# Altium footprint library SCMLI_V31.PcbLib: 32 footprints (part 2 of 2)
Each footprint in its own frame and in the unit in brackets; x right, y up, seen from the top. Pads: shape width x height; smd on the part's side, far side on the other; paste and mask are expansions set on the pad; w line width, h text height; cw(c..) or ccw(c..) is an arc to the next point about the centre after c.
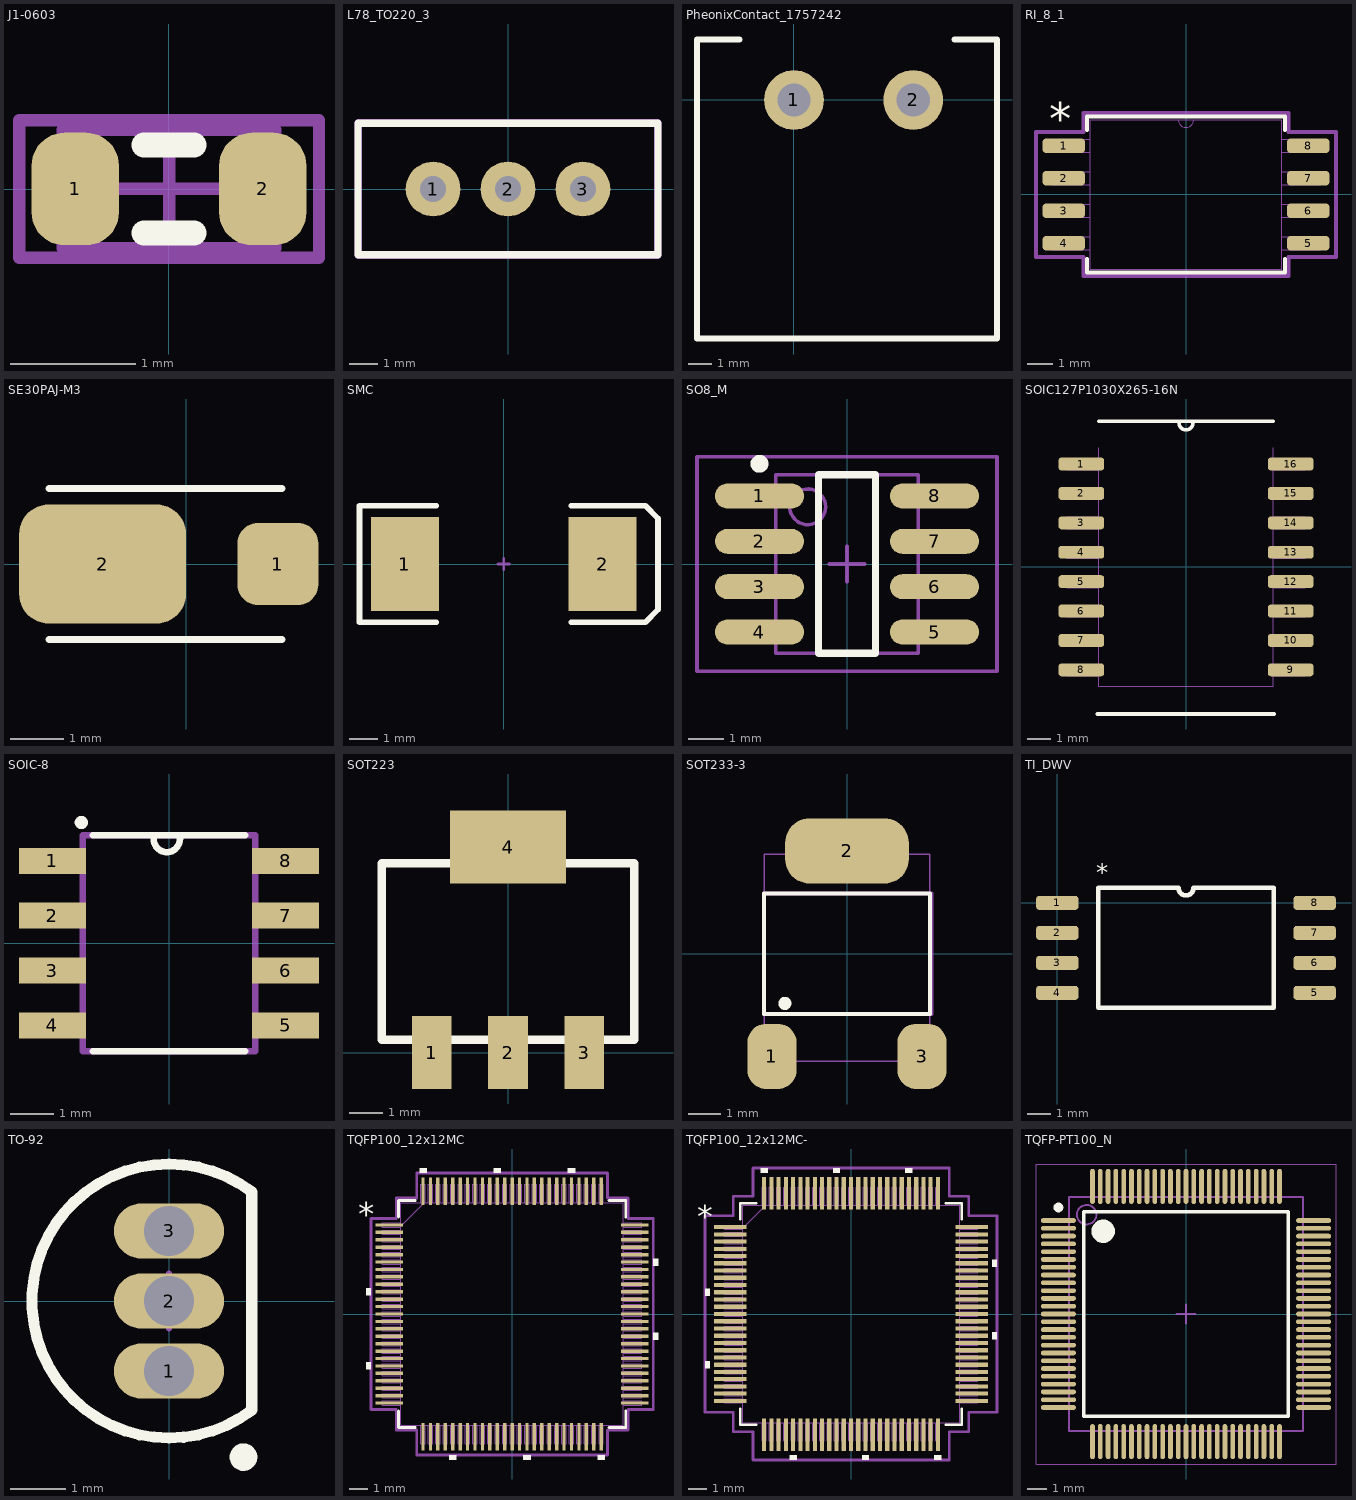
[diagram p1: the footprints below, top view; thin cyan lines are the x and y axes]

## J1-0603 [mm] "Chip Resistor, Body 1.6x0.8mm, IPC High Density"
height 0.9
pads (2):
  rrect75% 0.7x0.9 smd: 1(-0.75,0) 2(0.75,0)
Top Overlay:
  lines w0.2: -0.2,-0.35 0.2,-0.35 ; -0.2,0.35 0.2,0.35
Mechanical 13:
  lines w0.1: -0.85,-0.475 -0.85,0.475 0.85,0.475 0.85,-0.475 -0.85,-0.475
Mechanical 15:
  lines w0.1: -0.475,0 0.475,0 ; 0,-0.475 0,0.475 ; -1.2,-0.55 -1.2,0.55 1.2,0.55 1.2,-0.55 -1.2,-0.55
3D body: height 0.9, standoff 0, extent -0.85,-0.475 0.85,0.475

## L78_TO220_3 [mm]
pads (3):
  round 1.9 hole 0.9: 1(-2.6,0) 2(0,0) 3(2.6,0)
Top Overlay:
  lines w0.254: -5.207,-2.286 -5.207,2.286 5.207,2.286 5.207,-2.286 -5.207,-2.286
Mechanical 1:
  lines w0.254: -5.2,-2.3 -5.2,2.3 5.2,2.3 5.2,-2.3 -5.2,-2.3
3D body: height 16.4, standoff 0, extent -5.2,-2.3 5.207,2.3

## PheonixContact_1757242 [mm]
pads (2):
  round 2.5 hole 1.4: 1(0,0) 2(5,0)
Top Overlay:
  lines w0.254: -4.064,-10 8.509,-10 ; -4.064,-9.906 -4.064,2.54 -2.286,2.54 ; 6.731,2.54 8.509,2.54 8.509,-9.906
3D body "pxc_1757242_06_MSTBA-2-5-2-G-5-08_3D.stp": height 0, standoff -12, extent -3.778,-7.401 8.382,4.699

## RI_8_1 [mm]
pads (8):
  rrect50% 1.661x0.561 smd paste+0 mask+0: 1(-4.78,1.905) 2(-4.78,0.635) 3(-4.78,-0.635) 4(-4.78,-1.905) 5(4.78,-1.905) 6(4.78,-0.635) 7(4.78,0.635) 8(4.78,1.905)
Top Overlay:
  lines w0.152: -3.877,-2.51 -3.877,-3.052 3.877,-3.052 3.877,-2.51 ; -3.877,2.51 -3.877,3.052 3.877,3.052 3.877,2.51
  text "*" at -5.351,2.339 h1.27
Mechanical 13:
  lines w0: -0.305,2.925 ccw(c0,2.925) 0.305,2.925
  lines w0.025: -5.255,-2.16 -3.75,-2.16 -3.75,-1.65 -5.255,-1.65 -5.255,-2.16 ; -5.255,-0.89 -3.75,-0.89 -3.75,-0.38 -5.255,-0.38 -5.255,-0.89 ; -5.255,0.38 -3.75,0.38 -3.75,0.89 -5.255,0.89 -5.255,0.38 ; -5.255,1.65 -3.75,1.65 -3.75,2.16 -5.255,2.16 -5.255,1.65 ; -3.75,-2.925 -3.75,2.925 3.75,2.925 3.75,-2.925 -3.75,-2.925 ; 3.75,-2.16 5.255,-2.16 5.255,-1.65 3.75,-1.65 3.75,-2.16 ; 3.75,-0.89 5.255,-0.89 5.255,-0.38 3.75,-0.38 3.75,-0.89 ; 3.75,0.38 5.255,0.38 5.255,0.89 3.75,0.89 3.75,0.38 ; 3.75,1.65 5.255,1.65 5.255,2.16 3.75,2.16 3.75,1.65
  text "*" at -3.687,1.579 h1.27
Mechanical 15:
  lines w0.152: -5.865,-2.439 -4.004,-2.439 -4.004,-3.179 4.004,-3.179 4.004,-2.439 5.865,-2.439 5.865,2.439 4.004,2.439 4.004,3.179 -4.004,3.179 -4.004,2.439 -5.865,2.439 -5.865,-2.439

## SE30PAJ-M3 [mil] "600V diode"
pads (2):
  rrect50% 59x60 smd: 1(67,0)
  rrect50% 122x87 smd: 2(-61,0)
Top Overlay:
  lines w5: -100,-55 70,-55 ; -100,55 70,55

## SMC [mm] "DO-214-AB/SMC; 2 C-Bend Leads; Body 7.9 x 5.9 mm, inc. leads (LxW)"
height 2.65
pads (2):
  rect 2.4x3.3 smd: 1(-3.475,0) 2(3.475,0)
Top Overlay:
  lines w0.2: -2.375,-2.05 -5.075,-2.05 -5.075,2.05 -2.375,2.05 ; 2.375,-2.05 4.975,-2.05 5.425,-1.6 5.425,1.6 4.975,2.055 ; 2.375,2.05 4.975,2.05
Mechanical 1:
  lines w0.1: -0.2,0 0.2,0 ; 0,-0.2 0,0.2

## SO8_M [mm] "SOIC, 8-Leads, Body 4.9x3.9mm, Pitch 1.27mm, IPC Low Density"
height 1.75
pads (8):
  oval 2.5x0.7 smd: 1(-2.45,1.905) 2(-2.45,0.635) 3(-2.45,-0.635) 4(-2.45,-1.905) 5(2.45,-1.905) 6(2.45,-0.635) 7(2.45,0.635) 8(2.45,1.905)
Top Overlay:
  circle w0.25: c-2.45,2.805 r0.125
  lines w0.2: -0.8,-2.5 0.8,-2.5 0.8,2.5 -0.8,2.5 -0.8,-2.5
Mechanical 13:
  circle w0.1: c-1.1,1.6 r0.5
  lines w0.1: -2,-2.5 2,-2.5 2,2.5 -2,2.5 -2,-2.5
Mechanical 15:
  lines w0.1: -0.5,0 0.5,0 ; 0,-0.5 0,0.5 ; -4.2,-3 4.2,-3 4.2,3 -4.2,3 -4.2,-3
3D body: height 1.75, standoff 0, extent -2,-2.5 2,2.5

## SOIC127P1030X265-16N [mil]
pads (16):
  rrect50% 78x22 smd: 1(-178,175) 2(-178,125) 3(-178,75) 4(-178,25) 5(-178,-25) 6(-178,-75) 7(-178,-125) 8(-178,-175) 9(178,-175) 10(178,-125) 11(178,-75) 12(178,-25) 13(178,25) 14(178,75) 15(178,125) 16(178,175)
Top Overlay:
  lines w6: -151,-250 150,-250 ; -148,248 -12,248 12,248 148,248 ; -12,245 ccw(c0,245) 12,245
Mechanical 4:
  lines w0: -203,-185 -203,-165 ; -203,-185 -148,-185 ; -203,-185 -203,-165 ; -203,-185 -148,-185 ; -203,-165 -148,-165 ; -203,-165 -148,-165 ; -203,-135 -203,-115 ; -203,-135 -148,-135 ; -203,-135 -203,-115 ; -203,-135 -148,-135 ; -203,-115 -148,-115 ; -203,-115 -148,-115 ; -203,-85 -203,-65 ; -203,-85 -148,-85 ; -203,-85 -203,-65 ; -203,-85 -148,-85 ; -203,-65 -148,-65 ; -203,-65 -148,-65 ; -203,-35 -203,-15 ; -203,-35 -148,-35 ; -203,-35 -203,-15 ; -203,-35 -148,-35 ; -203,-15 -148,-15 ; -203,-15 -148,-15 ; -203,15 -203,35 ; -203,15 -148,15 ; -203,15 -203,35 ; -203,15 -148,15 ; -203,35 -148,35 ; -203,35 -148,35 ; -203,65 -203,85 ; -203,65 -148,65 ; -203,65 -203,85 ; -203,65 -148,65 ; -203,85 -148,85 ; -203,85 -148,85 ; -203,115 -203,135 ; -203,115 -148,115 ; -203,115 -203,135 ; -203,115 -148,115 ; -203,135 -148,135 ; -203,135 -148,135 ; -203,165 -203,185 ; -203,165 -148,165 ; -203,165 -203,185 ; -203,165 -148,165 ; -203,185 -148,185 ; -203,185 -148,185 ; -148,-203 148,-203 ; -148,-203 -148,203 -148,-203 ; -148,-203 148,-203 ; -148,-185 -148,-165 ; -148,-185 -148,-165 ; -148,-135 -148,-115 ; -148,-135 -148,-115 ; -148,-85 -148,-65 ; -148,-85 -148,-65 ; -148,-35 -148,-15 ; -148,-35 -148,-15 ; -148,15 -148,35 ; -148,15 -148,35 ; -148,65 -148,85 ; -148,65 -148,85 ; -148,115 -148,135 ; -148,115 -148,135 ; -148,165 -148,185 ; -148,165 -148,185 ; -12,248 ccw(c0,248) 12,248 ; -12,248 ccw(c0,248) 12,248 ; -12,248 12,248 ; -12,248 -148,248 -12,248 ; -12,248 12,248 ; 12,248 148,248 12,248 ; 148,-203 148,203 148,-203 ; 148,-185 148,-165 ; 148,-185 203,-185 ; 148,-185 148,-165 ; 148,-185 203,-185 ; 148,-165 203,-165 ; 148,-165 203,-165 ; 148,-135 148,-115 ; 148,-135 203,-135 ; 148,-135 148,-115 ; 148,-135 203,-135 ; 148,-115 203,-115 ; 148,-115 203,-115 ; 148,-85 148,-65 ; 148,-85 203,-85 ; 148,-85 148,-65 ; 148,-85 203,-85 ; 148,-65 203,-65 ; 148,-65 203,-65 ; 148,-35 148,-15 ; 148,-35 203,-35 ; 148,-35 148,-15 ; 148,-35 203,-35 ; 148,-15 203,-15 ; 148,-15 203,-15 ; 148,15 148,35 ; 148,15 203,15 ; 148,15 148,35 ; 148,15 203,15 ; 148,35 203,35 ; 148,35 203,35 ; 148,65 148,85 ; 148,65 203,65 ; 148,65 148,85 ; 148,65 203,65 ; 148,85 203,85 ; 148,85 203,85 ; 148,115 148,135 ; 148,115 203,115 ; 148,115 148,135 ; 148,115 203,115 ; 148,135 203,135 ; 148,135 203,135 ; 148,165 148,185 ; 148,165 203,165 ; 148,165 148,185 ; 148,165 203,165 ; 148,185 203,185 ; 148,185 203,185 ; 203,-185 203,-165 ; 203,-185 203,-165 ; 203,-135 203,-115 ; 203,-135 203,-115 ; 203,-85 203,-65 ; 203,-85 203,-65 ; 203,-35 203,-15 ; 203,-35 203,-15 ; 203,15 203,35 ; 203,15 203,35 ; 203,65 203,85 ; 203,65 203,85 ; 203,115 203,135 ; 203,115 203,135 ; 203,165 203,185 ; 203,165 203,185

## SOIC-8 [mm]
pads (8):
  rect 1.55x0.6 smd: 1(-2.7,1.905) 2(-2.7,0.635) 3(-2.7,-0.635) 4(-2.7,-1.905) 5(2.7,-1.905) 6(2.7,-0.635) 7(2.7,0.635) 8(2.7,1.905)
Top Overlay:
  circle w0.152: c-2.032,2.794 r0.076
  lines w0.152: -1.769,-2.502 1.769,-2.502 ; -1.769,2.502 1.769,2.502 ; -0.356,2.413 ccw(c-0.051,2.413) 0.254,2.413
Mechanical 1:
  lines w0.152: -1.994,-2.502 -1.994,2.502 1.994,2.502 1.994,-2.502 -1.994,-2.502
3D body: height 1.75, standoff 0, extent -1.994,-2.502 1.994,2.502

## SOT223 [mm]
pads (4):
  rect 1.2x2.2 smd: 1(-2.3,0) 2(0,0) 3(2.3,0)
  rect 3.5x2.2 smd: 4(0,6.2)
Top Overlay:
  lines w0.254: -3.81,0.381 3.81,0.381 3.81,5.715 -0.508,5.715 -3.81,5.715 -3.81,0.381

## SOT233-3 [mm]
pads (3):
  rrect75% 1.5x2 smd: 1(-2.3,-3.15) 3(2.3,-3.15)
  rrect75% 3.8x2 smd: 2(0,3.15)
Top Overlay:
  circle w0.2: c-1.905,-1.524 r0.1
  lines w0.127: -2.54,-1.85 2.54,-1.85 2.54,1.85 -2.54,1.85 -2.54,-1.85
Mechanical 4:
  lines w0.127: -2.54,-1.85 2.588,-1.85 ; -2.54,-1.85 2.588,-1.85 ; -2.54,-1.85 -2.54,1.85 ; -2.54,1.85 2.588,1.85 ; -2.54,1.85 2.588,1.85 ; 2.588,-1.85 2.588,1.85
Mechanical 16:
  lines w0.05: -2.54,-3.302 -2.54,3.048 2.54,3.048 2.54,-3.302 -2.54,-3.302

## TI_DWV [mm]
pads (8):
  rrect50% 1.8x0.6 smd: 1(0,0) 2(0,-1.27) 3(0,-2.54) 4(0,-3.81) 5(10.9,-3.81) 6(10.9,-2.54) 7(10.9,-1.27) 8(10.9,0)
Top Overlay:
  lines w0.2: 1.735,-4.445 9.165,-4.445 9.165,0.635 5.767,0.635 cw(c5.45,0.635) 5.132,0.635 1.735,0.635 1.735,-4.445
  text "*" at 1.651,0.889 h0.76

## TO-92 [mm] "TO, Flat Index; 3 In-Line, Axial Leads; Body Dia. 4.7mm; Lead Dia. 0.56 mm (max)"
height 4.95
pads (3):
  oval 2x1 hole 0.9: 1(0,-1.27) 2(0,0) 3(0,1.27)
Top Overlay:
  circle w0.25: c1.35,-2.83 r0.125
  lines w0.2: 1.5,-1.98 cw(c0,0) 1.5,1.98 1.5,-1.98
Mechanical 13:
  lines w0.1: 1.5,-1.98 cw(c0,0) 1.5,1.98 1.5,-1.98
Mechanical 15:
  lines w0.1: -0.5,0 0.5,0 ; 0,-0.5 0,0.5
3D body: height 4.95, standoff 0, extent -2.485,-2.495 1.501,2.495

## TQFP100_12x12MC [mil]
pads (100):
  rect 58x7 smd paste+0 mask+0: 1(-260.5,188.98) 2(-260.5,173.23) 3(-260.5,157.48) 4(-260.5,141.73) 5(-260.5,125.98) 6(-260.5,110.24) 7(-260.5,94.49) 8(-260.5,78.74) 9(-260.5,62.99) 10(-260.5,47.24) 11(-260.5,31.5) 12(-260.5,15.75) 13(-260.5,0) 14(-260.5,-15.75) 15(-260.5,-31.5) 16(-260.5,-47.24) 17(-260.5,-62.99) 18(-260.5,-78.74) 19(-260.5,-94.49) 20(-260.5,-110.24) 21(-260.5,-125.98) 22(-260.5,-141.73) 23(-260.5,-157.48) 24(-260.5,-173.23) 25(-260.5,-188.98) 51(260.5,-188.98) 52(260.5,-173.23) 53(260.5,-157.48) 54(260.5,-141.73) 55(260.5,-125.98) 56(260.5,-110.24) 57(260.5,-94.49) 58(260.5,-78.74) 59(260.5,-62.99) 60(260.5,-47.24) 61(260.5,-31.5) 62(260.5,-15.75) 63(260.5,0) 64(260.5,15.75) 65(260.5,31.5) 66(260.5,47.24) 67(260.5,62.99) 68(260.5,78.74) 69(260.5,94.49) 70(260.5,110.24) 71(260.5,125.98) 72(260.5,141.73) 73(260.5,157.48) 74(260.5,173.23) 75(260.5,188.98)
  rect 7x58 smd paste+0 mask+0: 26(-188.98,-260.5) 27(-173.23,-260.5) 28(-157.48,-260.5) 29(-141.73,-260.5) 30(-125.98,-260.5) 31(-110.24,-260.5) 32(-94.49,-260.5) 33(-78.74,-260.5) 34(-62.99,-260.5) 35(-47.24,-260.5) 36(-31.5,-260.5) 37(-15.75,-260.5) 38(0,-260.5) 39(15.75,-260.5) 40(31.5,-260.5) 41(47.24,-260.5) 42(62.99,-260.5) 43(78.74,-260.5) 44(94.49,-260.5) 45(110.24,-260.5) 46(125.98,-260.5) 47(141.73,-260.5) 48(157.48,-260.5) 49(173.23,-260.5) 50(188.98,-260.5) 76(188.98,260.5) 77(173.23,260.5) 78(157.48,260.5) 79(141.73,260.5) 80(125.98,260.5) 81(110.24,260.5) 82(94.49,260.5) 83(78.74,260.5) 84(62.99,260.5) 85(47.24,260.5) 86(31.5,260.5) 87(15.75,260.5) 88(0,260.5) 89(-15.75,260.5) 90(-31.5,260.5) 91(-47.24,260.5) 92(-62.99,260.5) 93(-78.74,260.5) 94(-94.49,260.5) 95(-110.24,260.5) 96(-125.98,260.5) 97(-141.73,260.5) 98(-157.48,260.5) 99(-173.23,260.5) 100(-188.98,260.5)
Top Overlay:
  region: -181.48,299.5 -196.48,299.5 -196.48,309.5 -181.48,309.5
  region: -24,299.5 -39,299.5 -39,309.5 -24,309.5
  region: 133.48,299.5 118.48,299.5 118.48,309.5 133.48,309.5
  region: 299.5,117.74 309.5,117.74 309.5,102.74 299.5,102.74
  region: 299.5,-39.74 309.5,-39.74 309.5,-54.74 299.5,-54.74
  region: 196.48,-299.5 181.48,-299.5 181.48,-309.5 196.48,-309.5
  region: 39,-299.5 24,-299.5 24,-309.5 39,-309.5
  region: -118.48,-299.5 -133.48,-299.5 -133.48,-309.5 -118.48,-309.5
  region: -299.5,-102.74 -309.5,-102.74 -309.5,-117.74 -299.5,-117.74
  region: -299.5,54.74 -309.5,54.74 -309.5,39.74 -299.5,39.74
  lines w6: -241,-205.58 -241,-241 -205.58,-241 ; -241,205.58 -241,241 -205.58,241 ; 205.58,-241 241,-241 241,-205.58 ; 205.58,241 241,241 241,205.58
  text "*" at -327,186.85 h50
Mechanical 13:
  drawing of 405 lines, arcs and shapes, not listed
  text "*" at -233.5,171.85 h50
Mechanical 15:
  lines w6: -299.5,-202.48 -299.5,202.48 -246,202.48 -246,246 -202.48,246 -202.48,299.5 202.48,299.5 202.48,246 246,246 246,202.48 299.5,202.48 299.5,-202.48 246,-202.48 246,-246 202.48,-246 202.48,-299.5 -202.48,-299.5 -202.48,-246 -246,-246 -246,-202.48 -299.5,-202.48

## TQFP100_12x12MC- [mil]
pads (100):
  rect 70x9 smd paste+0 mask+0: 1(-262.5,188.98) 2(-262.5,173.23) 3(-262.5,157.48) 4(-262.5,141.73) 5(-262.5,125.98) 6(-262.5,110.24) 7(-262.5,94.49) 8(-262.5,78.74) 9(-262.5,62.99) 10(-262.5,47.24) 11(-262.5,31.5) 12(-262.5,15.75) 13(-262.5,0) 14(-262.5,-15.75) 15(-262.5,-31.5) 16(-262.5,-47.24) 17(-262.5,-62.99) 18(-262.5,-78.74) 19(-262.5,-94.49) 20(-262.5,-110.24) 21(-262.5,-125.98) 22(-262.5,-141.73) 23(-262.5,-157.48) 24(-262.5,-173.23) 25(-262.5,-188.98) 51(262.5,-188.98) 52(262.5,-173.23) 53(262.5,-157.48) 54(262.5,-141.73) 55(262.5,-125.98) 56(262.5,-110.24) 57(262.5,-94.49) 58(262.5,-78.74) 59(262.5,-62.99) 60(262.5,-47.24) 61(262.5,-31.5) 62(262.5,-15.75) 63(262.5,0) 64(262.5,15.75) 65(262.5,31.5) 66(262.5,47.24) 67(262.5,62.99) 68(262.5,78.74) 69(262.5,94.49) 70(262.5,110.24) 71(262.5,125.98) 72(262.5,141.73) 73(262.5,157.48) 74(262.5,173.23) 75(262.5,188.98)
  rect 9x70 smd paste+0 mask+0: 26(-188.98,-262.5) 27(-173.23,-262.5) 28(-157.48,-262.5) 29(-141.73,-262.5) 30(-125.98,-262.5) 31(-110.24,-262.5) 32(-94.49,-262.5) 33(-78.74,-262.5) 34(-62.99,-262.5) 35(-47.24,-262.5) 36(-31.5,-262.5) 37(-15.75,-262.5) 38(0,-262.5) 39(15.75,-262.5) 40(31.5,-262.5) 41(47.24,-262.5) 42(62.99,-262.5) 43(78.74,-262.5) 44(94.49,-262.5) 45(110.24,-262.5) 46(125.98,-262.5) 47(141.73,-262.5) 48(157.48,-262.5) 49(173.23,-262.5) 50(188.98,-262.5) 76(188.98,262.5) 77(173.23,262.5) 78(157.48,262.5) 79(141.73,262.5) 80(125.98,262.5) 81(110.24,262.5) 82(94.49,262.5) 83(78.74,262.5) 84(62.99,262.5) 85(47.24,262.5) 86(31.5,262.5) 87(15.75,262.5) 88(0,262.5) 89(-15.75,262.5) 90(-31.5,262.5) 91(-47.24,262.5) 92(-62.99,262.5) 93(-78.74,262.5) 94(-94.49,262.5) 95(-110.24,262.5) 96(-125.98,262.5) 97(-141.73,262.5) 98(-157.48,262.5) 99(-173.23,262.5) 100(-188.98,262.5)
Top Overlay:
  region: -307.5,54.74 -317.5,54.74 -317.5,39.74 -307.5,39.74
  region: -307.5,-102.74 -317.5,-102.74 -317.5,-117.74 -307.5,-117.74
  region: -118.48,-307.5 -133.48,-307.5 -133.48,-317.5 -118.48,-317.5
  region: 39,-307.5 24,-307.5 24,-317.5 39,-317.5
  region: 196.48,-307.5 181.48,-307.5 181.48,-317.5 196.48,-317.5
  region: 307.5,-39.74 317.5,-39.74 317.5,-54.74 307.5,-54.74
  region: 307.5,117.74 317.5,117.74 317.5,102.74 307.5,102.74
  region: 133.48,307.5 118.48,307.5 118.48,317.5 133.48,317.5
  region: -24,307.5 -39,307.5 -39,317.5 -24,317.5
  region: -181.48,307.5 -196.48,307.5 -196.48,317.5 -181.48,317.5
  lines w6: -241,-206.58 -241,-241 -206.58,-241 ; -241,206.58 -241,241 -206.58,241 ; 206.58,-241 241,-241 241,-206.58 ; 206.58,241 241,241 241,206.58
  text "*" at -335,186.85 h50
Mechanical 13:
  drawing of 405 lines, arcs and shapes, not listed
  text "*" at -233.5,171.85 h50
Mechanical 15:
  lines w6: -317.5,-213.48 -256,-213.48 -256,-256 -213.48,-256 -213.48,-317.5 213.48,-317.5 213.48,-256 256,-256 256,-213.48 317.5,-213.48 317.5,213.48 256,213.48 256,256 213.48,256 213.48,317.5 -213.48,317.5 -213.48,256 -256,256 -256,213.48 -317.5,213.48 -317.5,-213.48
3D body: height 10, standoff 0, extent 0,0 10,10

## TQFP-PT100_N [mm] "Thin QFP, 100-Leads, Body 12x12mm, Pitch 0.4mm, IPC Medium Density"
height 1.2
pads (100):
  oval 1.8x0.24 smd: 1(-6.55,4.8) 2(-6.55,4.4) 3(-6.55,4) 4(-6.55,3.6) 5(-6.55,3.2) 6(-6.55,2.8) 7(-6.55,2.4) 8(-6.55,2) 9(-6.55,1.6) 10(-6.55,1.2) 11(-6.55,0.8) 12(-6.55,0.4) 13(-6.55,0) 14(-6.55,-0.4) 15(-6.55,-0.8) 16(-6.55,-1.2) 17(-6.55,-1.6) 18(-6.55,-2) 19(-6.55,-2.4) 20(-6.55,-2.8) 21(-6.55,-3.2) 22(-6.55,-3.6) 23(-6.55,-4) 24(-6.55,-4.4) 25(-6.55,-4.8) 51(6.55,-4.8) 52(6.55,-4.4) 53(6.55,-4) 54(6.55,-3.6) 55(6.55,-3.2) 56(6.55,-2.8) 57(6.55,-2.4) 58(6.55,-2) 59(6.55,-1.6) 60(6.55,-1.2) 61(6.55,-0.8) 62(6.55,-0.4) 63(6.55,0) 64(6.55,0.4) 65(6.55,0.8) 66(6.55,1.2) 67(6.55,1.6) 68(6.55,2) 69(6.55,2.4) 70(6.55,2.8) 71(6.55,3.2) 72(6.55,3.6) 73(6.55,4) 74(6.55,4.4) 75(6.55,4.8)
  oval 0.24x1.8 smd: 26(-4.8,-6.55) 27(-4.4,-6.55) 28(-4,-6.55) 29(-3.6,-6.55) 30(-3.2,-6.55) 31(-2.8,-6.55) 32(-2.4,-6.55) 33(-2,-6.55) 34(-1.6,-6.55) 35(-1.2,-6.55) 36(-0.8,-6.55) 37(-0.4,-6.55) 38(0,-6.55) 39(0.4,-6.55) 40(0.8,-6.55) 41(1.2,-6.55) 42(1.6,-6.55) 43(2,-6.55) 44(2.4,-6.55) 45(2.8,-6.55) 46(3.2,-6.55) 47(3.6,-6.55) 48(4,-6.55) 49(4.4,-6.55) 50(4.8,-6.55) 76(4.8,6.55) 77(4.4,6.55) 78(4,6.55) 79(3.6,6.55) 80(3.2,6.55) 81(2.8,6.55) 82(2.4,6.55) 83(2,6.55) 84(1.6,6.55) 85(1.2,6.55) 86(0.8,6.55) 87(0.4,6.55) 88(0,6.55) 89(-0.4,6.55) 90(-0.8,6.55) 91(-1.2,6.55) 92(-1.6,6.55) 93(-2,6.55) 94(-2.4,6.55) 95(-2.8,6.55) 96(-3.2,6.55) 97(-3.6,6.55) 98(-4,6.55) 99(-4.4,6.55) 100(-4.8,6.55)
Top Overlay:
  circle w0.6: c-4.25,4.25 r0.3
  circle w0.25: c-6.55,5.47 r0.125
  lines w0.2: -5.25,-5.25 5.25,-5.25 5.25,5.25 -5.25,5.25 -5.25,-5.25
Mechanical 13:
  circle w0.1: c-5.1,5.1 r0.5
  lines w0.1: -6,-6 6,-6 6,6 -6,6 -6,-6
Mechanical 15:
  lines w0.05: -7.7,-7.7 7.7,-7.7 7.7,7.7 -7.7,7.7 -7.7,-7.7
  lines w0.1: -0.5,0 0.5,0 ; 0,-0.5 0,0.5
3D body: height 1.2, standoff 0, extent -6,-6 6,6